# Altium footprint library auto_turn_components.PcbLib: 24 footprints (part 1 of 2)
Each footprint in its own frame and in the unit in brackets; x right, y up, seen from the top. Pads: shape width x height; smd on the part's side, far side on the other; paste and mask are expansions set on the pad; w line width, h text height; cw(c..) or ccw(c..) is an arc to the next point about the centre after c.
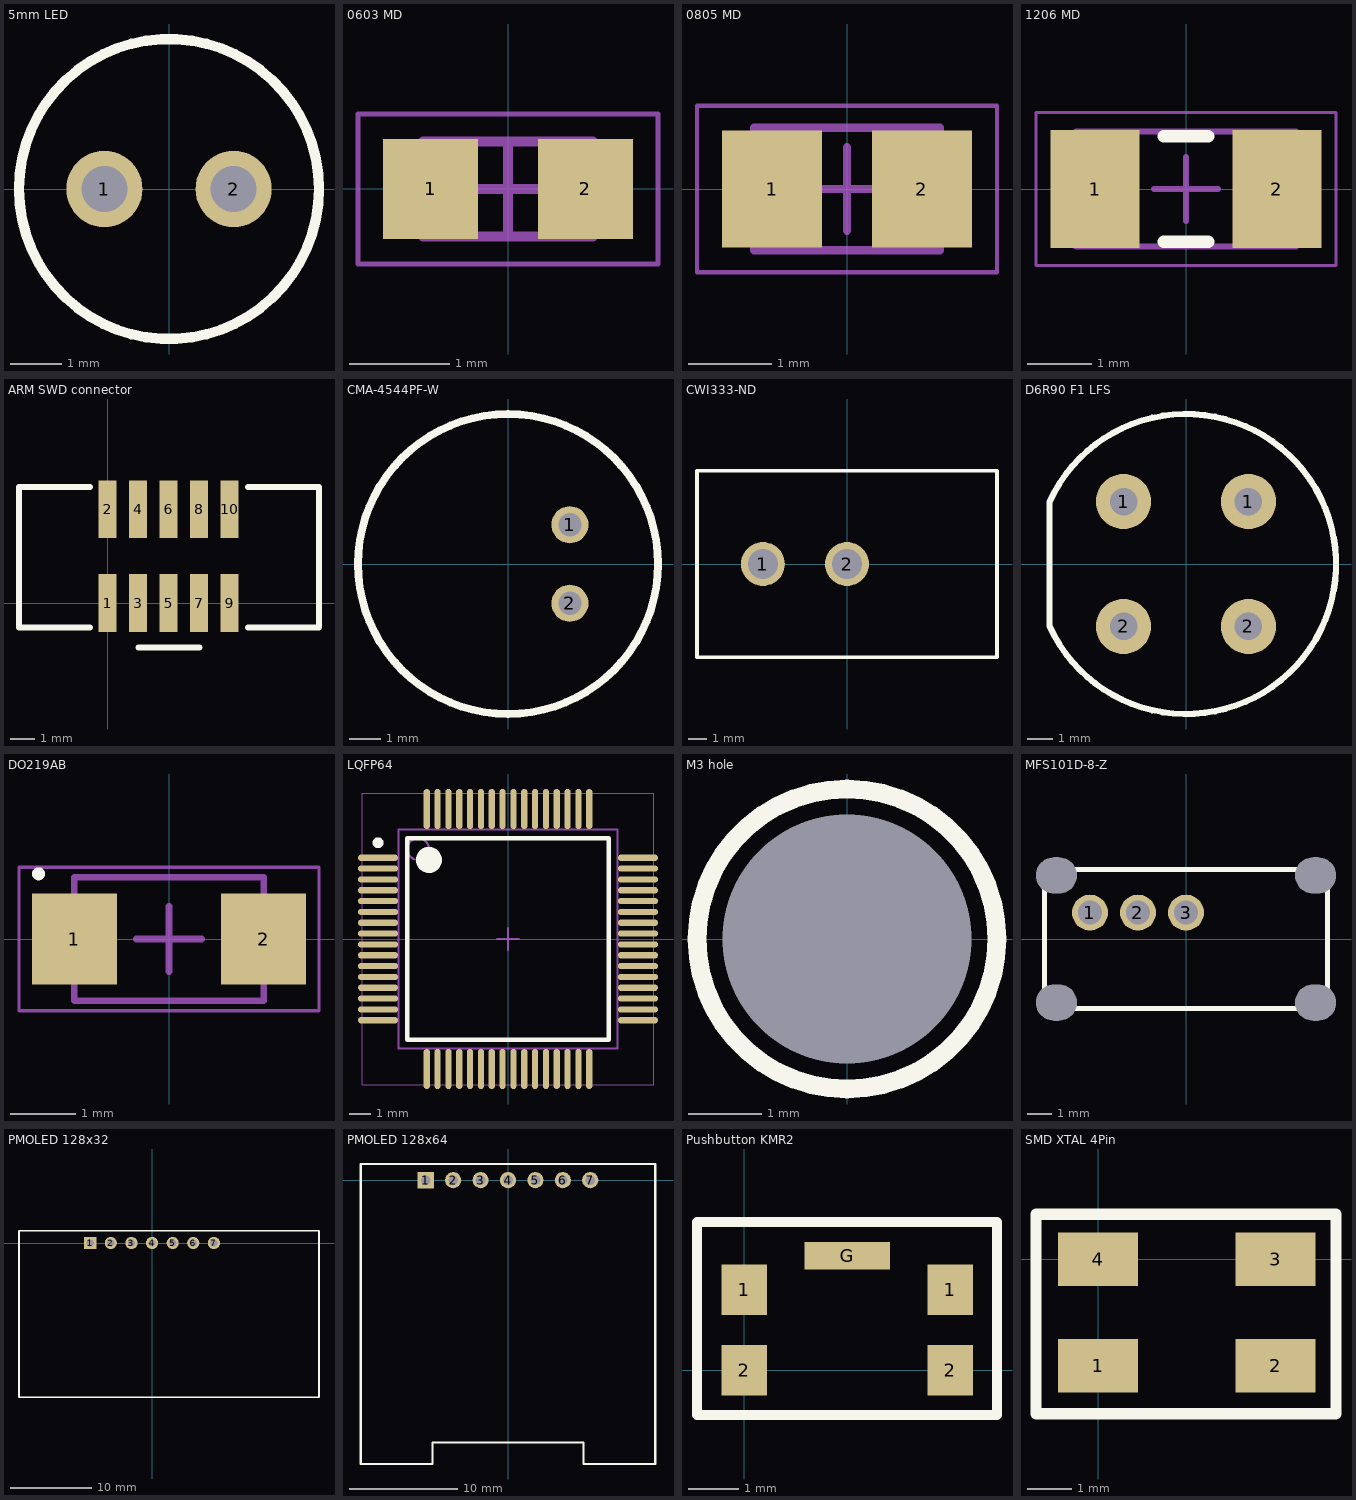
[diagram p0: the footprints below, top view; thin cyan lines are the x and y axes]

## 5mm LED [mm] "5mm LED"
pads (2):
  round 1.5 hole 0.9: 1(-1.27,0) 2(1.27,0)
Top Overlay:
  circle w0.2: c0,0 r2.95

## 0603 MD [mm] "0603 imperial resistor medium density"
height 0.4
pads (2):
  rect 0.95x1 smd: 1(-0.775,0) 2(0.775,0)
Mechanical 13:
  lines w0.1: -0.85,-0.475 0.85,-0.475 0.85,0.475 -0.85,0.475 -0.85,-0.475
Mechanical 15:
  lines w0.05: -1.5,-0.75 1.5,-0.75 1.5,0.75 -1.5,0.75 -1.5,-0.75
  lines w0.1: -0.475,0 0.475,0 ; 0,-0.475 0,0.475
3D body "0603 Resistor MD.step": height 0.4, standoff 0, extent -0.85,-0.475 0.85,0.475

## 0805 MD [mm] "0805 imperial Capacitor medium density"
height 1.4
pads (2):
  rect 1.2x1.4 smd: 1(-0.9,0) 2(0.9,0)
Mechanical 13:
  lines w0.1: -1.115,-0.735 -1.115,0.735 1.115,0.735 1.115,-0.735 -1.115,-0.735
Mechanical 15:
  lines w0.05: -1.8,-1 -1.8,1 1.8,1 1.8,-1 -1.8,-1
  lines w0.1: -0.5,0 0.5,0 ; 0,-0.5 0,0.5
3D body "0805 Capacitor MD.step": height 1.4, standoff 0, extent -1.115,-0.735 1.115,0.735

## 1206 MD [mm] "1206 MD littlefuse datasheet"
height 1
pads (2):
  rect 1.4x1.85 smd: 1(-1.425,0) 2(1.425,0)
Top Overlay:
  lines w0.2: -0.35,-0.825 0.35,-0.825 ; -0.35,0.825 0.35,0.825
Mechanical 13:
  lines w0.1: -1.72,-0.9 1.72,-0.9 1.72,0.9 -1.72,0.9 -1.72,-0.9
Mechanical 15:
  lines w0.05: -2.35,-1.2 2.35,-1.2 2.35,1.2 -2.35,1.2 -2.35,-1.2
  lines w0.1: -0.5,0 0.5,0 ; 0,-0.5 0,0.5
3D body "1206 MD.step": height 1, standoff 0, extent -1.72,-0.9 1.72,0.9

## ARM SWD connector [mm] "1.27mm pitch, 10 poles, 2 rows, SMD"
height 5
pads (10):
  rect 0.76x2.4 smd: 1(0,0) 2(0,3.9) 3(1.27,0) 4(1.27,3.9) 5(2.54,0) 6(2.54,3.9) 7(3.81,0) 8(3.81,3.9) 9(5.08,0) 10(5.08,3.9)
Top Overlay:
  lines w0.254: -0.725,-1.016 -3.683,-1.016 -3.683,4.826 -0.725,4.826 ; 1.295,-1.854 3.835,-1.854 ; 5.842,-1.016 8.8,-1.016 8.8,4.826 5.842,4.826

## CMA-4544PF-W [mm] "Electret Condensor Microphone"
pads (2):
  round 1.2 hole 0.75: 1(2,1.27) 2(2,-1.27)
Top Overlay:
  circle w0.25: c0,0 r4.85

## CWI333-ND [mm] "Slide Switch SPST Through Hole"
pads (2):
  round 2.4 hole 1.65: 1(-4.6,0) 2(0,0)
Top Overlay:
  lines w0.2: -8.2,-5.1 -8.2,5.1 8.2,5.1 8.2,-5.1 -8.2,-5.1

## D6R90 F1 LFS [mm] "Tactile Pushbutton Switch"
pads (4):
  round 2.2 hole 1.1: 1(-2.5,2.5) 1(2.5,2.5) 2(-2.5,-2.5) 2(2.5,-2.5)
Top Overlay:
  lines w0.25: -5.462,-2.483 ccw(c0,0) -5.462,2.483 -5.462,-2.483

## DO219AB [mm] "SODFL, 2-Leads, Body 1.80x3.70mm, IPC Medium Density"
height 1.08
pads (2):
  rect 1.3x1.4 smd: 1(-1.45,0) 2(1.45,0)
Top Overlay:
  circle w0.1: c-2,1 r0.05
Mechanical 13:
  lines w0.1: -1.45,-0.95 -1.45,0.95 1.45,0.95 1.45,-0.95 -1.45,-0.95
Mechanical 15:
  lines w0.05: -2.3,-1.1 -2.3,1.1 2.3,1.1 2.3,-1.1 -2.3,-1.1
  lines w0.1: -0.5,0 0.5,0 ; 0,-0.5 0,0.5
3D body "SODFL370X108-2N.step": height 1.08, standoff 0, extent -1.85,-0.95 1.85,0.95

## LQFP64 [mm] "LQFP64 from NXP datasheet long lead"
height 1.6
pads (64):
  oval 1.85x0.29 smd: 1(-6,3.75) 2(-6,3.25) 3(-6,2.75) 4(-6,2.25) 5(-6,1.75) 6(-6,1.25) 7(-6,0.75) 8(-6,0.25) 9(-6,-0.25) 10(-6,-0.75) 11(-6,-1.25) 12(-6,-1.75) 13(-6,-2.25) 14(-6,-2.75) 15(-6,-3.25) 16(-6,-3.75) 33(6,-3.75) 34(6,-3.25) 35(6,-2.75) 36(6,-2.25) 37(6,-1.75) 38(6,-1.25) 39(6,-0.75) 40(6,-0.25) 41(6,0.25) 42(6,0.75) 43(6,1.25) 44(6,1.75) 45(6,2.25) 46(6,2.75) 47(6,3.25) 48(6,3.75)
  oval 0.29x1.85 smd: 17(-3.75,-6) 18(-3.25,-6) 19(-2.75,-6) 20(-2.25,-6) 21(-1.75,-6) 22(-1.25,-6) 23(-0.75,-6) 24(-0.25,-6) 25(0.25,-6) 26(0.75,-6) 27(1.25,-6) 28(1.75,-6) 29(2.25,-6) 30(2.75,-6) 31(3.25,-6) 32(3.75,-6) 49(3.75,6) 50(3.25,6) 51(2.75,6) 52(2.25,6) 53(1.75,6) 54(1.25,6) 55(0.75,6) 56(0.25,6) 57(-0.25,6) 58(-0.75,6) 59(-1.25,6) 60(-1.75,6) 61(-2.25,6) 62(-2.75,6) 63(-3.25,6) 64(-3.75,6)
Top Overlay:
  circle w0.6: c-3.65,3.65 r0.3
  circle w0.25: c-6,4.445 r0.125
  lines w0.2: -4.65,-4.65 4.65,-4.65 4.65,4.65 -4.65,4.65 -4.65,-4.65
Mechanical 13:
  circle w0.1: c-4.15,4.15 r0.5
  lines w0.1: -5.05,-5.05 5.05,-5.05 5.05,5.05 -5.05,5.05 -5.05,-5.05
Mechanical 15:
  lines w0.05: -6.725,-6.725 6.725,-6.725 6.725,6.725 -6.725,6.725 -6.725,-6.725
  lines w0.1: -0.5,0 0.5,0 ; 0,-0.5 0,0.5
3D body "LQFP64.step": height 1.6, standoff 0, extent -6.075,-6.075 6.075,6.075

## M3 hole [mm] "M3 pcb mounting hole"
pads (1):
  round 0 hole 3.4 unplated: 1(0,0)
Top Overlay:
  circle w0.254: c0,0 r2.047

## MFS101D-8-Z [mm] "Copal Electronics Inc. MFS101D-8-Z"
pads (7):
  round 1.5 hole 1: 1(-4,1.1) 2(-2,1.1) 3(0,1.1)
  round 0 hole 1.5 slot 1.7 at 0 deg unplated: H(-5.4,-2.65) H(-5.4,2.65) H(5.4,-2.65) H(5.4,2.65)
Top Overlay:
  lines w0.2: -5.9,-2.9 -5.9,2.9 5.9,2.9 5.9,-2.9 -5.9,-2.9

## PMOLED 128x32 [mm] "128x32 PMOLED"
pads (7):
  rect 1.5x1.5 hole 0.9: 1(-7.62,0)
  round 1.5 hole 0.9: 2(-5.08,0) 3(-2.54,0) 4(0,0) 5(2.54,0) 6(5.08,0) 7(7.62,0)
Top Overlay:
  lines w0.2: -16.4,-19 -16.4,1.5 20.575,1.5 20.575,-19 -16.4,-19

## PMOLED 128x64 [mm] "128x64 PMOLED"
pads (7):
  rect 1.5x1.5 hole 0.9: 1(-7.62,0)
  round 1.5 hole 0.9: 2(-5.08,0) 3(-2.54,0) 4(0,0) 5(2.54,0) 6(5.08,0) 7(7.62,0)
Top Overlay:
  lines w0.2: -13.65,-26.3 -13.65,1.5 13.65,1.5 13.65,-26.3 7,-26.3 7,-24.3 -7,-24.3 -7,-26.3 -13.65,-26.3

## Pushbutton KMR2 [mm] "KMR 2 micro switch"
pads (5):
  rect 0.9x1 smd: 1(0,1.6) 1(4.1,1.6) 2(0,0) 2(4.1,0)
  rect 1.7x0.55 smd: G(2.05,2.275)
Top Overlay:
  lines w0.2: -0.94,-0.889 -0.94,2.946 5.029,2.946 5.029,-0.889 -0.94,-0.889

## SMD XTAL 4Pin [mm] "Abracon AB3MB SMD XTAL 4 pin"
pads (4):
  rect 1.8x1.2 smd: 1(0,-2.4) 2(4,-2.4) 3(4,0) 4(0,0)
Top Overlay:
  lines w0.254: -1.397,-3.48 5.359,-3.48 5.359,1.016 -1.397,1.016 -1.397,-3.48